# Altium footprint library MC-306_32.7680K-A5__ROHS.PcbLib: 1 footprints
Each footprint in its own frame and in the unit in brackets; x right, y up, seen from the top. Pads: shape width x height; smd on the part's side, far side on the other; paste and mask are expansions set on the pad; w line width, h text height; cw(c..) or ccw(c..) is an arc to the next point about the centre after c.
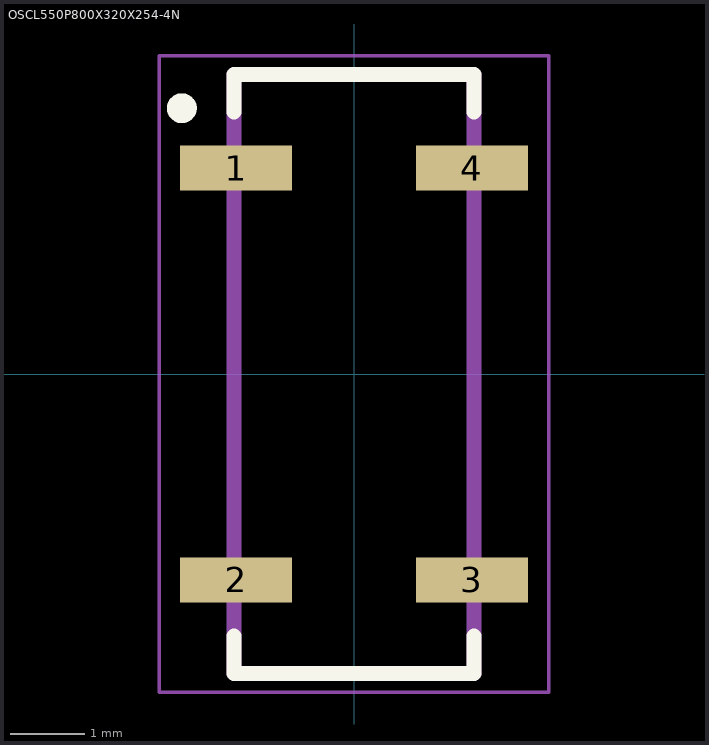
[diagram p0: the footprint, top view; thin cyan lines are the x and y axes]

## OSCL550P800X320X254-4N [mm]
pads (4):
  rect 1.5x0.6 smd: 1(-1.575,2.75) 2(-1.575,-2.75) 3(1.575,-2.75) 4(1.575,2.75)
Top Overlay:
  circle w0.2: c-2.3,3.55 r0.1
  lines w0.2: -1.6,-3.5 -1.6,-4 1.6,-4 1.6,-3.5 ; -1.6,3.5 -1.6,4 1.6,4 1.6,3.5
Mechanical 13:
  lines w0.2: -1.6,-4 1.6,-4 1.6,4 -1.6,4 -1.6,-4
Mechanical 15:
  lines w0.05: -2.6,-4.25 2.6,-4.25 2.6,4.25 -2.6,4.25 -2.6,-4.25